# EAGLE library part VHE100W (library cui)
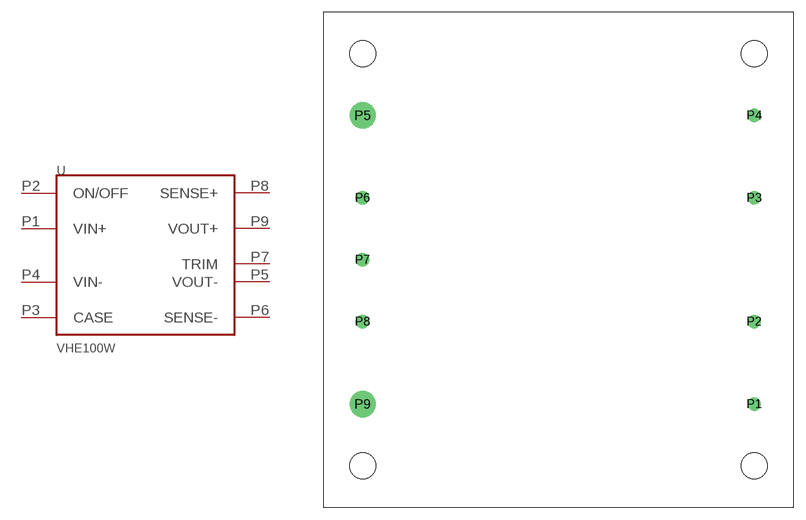
[diagram p0: symbol with the pads of VHE100W; footprint VHE100W]

Designator prefix -

## VHE100W  [VHE100W]
P1  VIN+
P2  ON/OFF
P3  CASE
P4  VIN-
P5  VOUT-
P6  SENSE-
P7  TRIM
P8  SENSE+
P9  VOUT+

## Footprint VHE100W (pad centres in mm)
drill 1.1: P1 24.1,-17.78; P2 24.1,-7.62; P3 24.1,7.62; P4 24.1,17.78; P6 -24.1,7.62; P7 -24.1,0; P8 -24.1,-7.62
drill 2.2: P5 -24.1,17.78; P9 -24.1,-17.78
hole 3.2 at 24.1,25.4
hole 3.2 at -24.1,25.4
hole 3.2 at -24.1,-25.4
hole 3.2 at 24.1,-25.4